# EAGLE library part SIMM72 (library F030NG)
SIMM slot 72pin
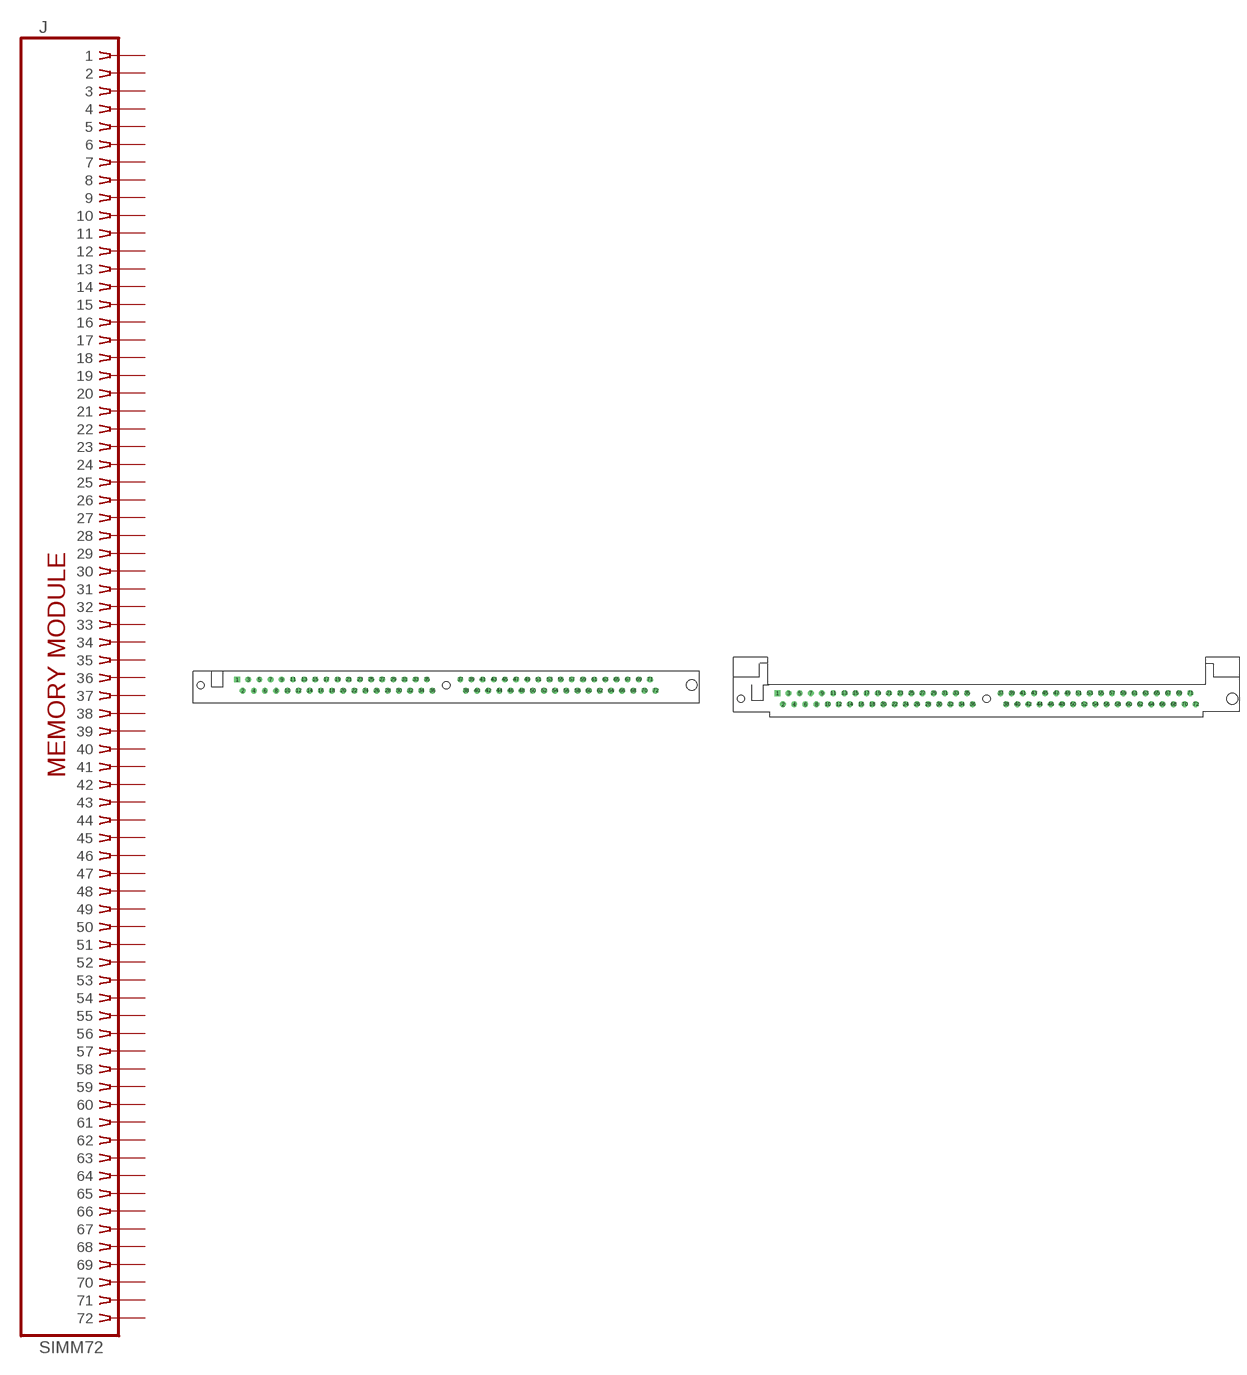
[diagram p3: symbol with the pads of TE_5822021-4; footprints TE_5822021-4, TE_5822134-3]

Designator prefix J

## SIMM72-VERT  [TE_5822021-4]
1  1  pas
2  2  pas
3  3  pas
4  4  pas
5  5  pas
6  6  pas
7  7  pas
8  8  pas
9  9  pas
10  10  pas
11  11  pas
12  12  pas
13  13  pas
14  14  pas
15  15  pas
16  16  pas
17  17  pas
18  18  pas
19  19  pas
20  20  pas
21  21  pas
22  22  pas
23  23  pas
24  24  pas
25  25  pas
26  26  pas
27  27  pas
28  28  pas
29  29  pas
30  30  pas
31  31  pas
32  32  pas
33  33  pas
34  34  pas
35  35  pas
36  36  pas
37  37  pas
38  38  pas
39  39  pas
40  40  pas
41  41  pas
42  42  pas
43  43  pas
44  44  pas
45  45  pas
46  46  pas
47  47  pas
48  48  pas
49  49  pas
50  50  pas
51  51  pas
52  52  pas
53  53  pas
54  54  pas
55  55  pas
56  56  pas
57  57  pas
58  58  pas
59  59  pas
60  60  pas
61  61  pas
62  62  pas
63  63  pas
64  64  pas
65  65  pas
66  66  pas
67  67  pas
68  68  pas
69  69  pas
70  70  pas
71  71  pas
72  72  pas

## SIMM72-22DEG  [TE_5822134-3]
Pads as for TE_5822021-4

## Footprint TE_5822021-4 (pad centres in mm)
SIMM 72 pin vertical TE 5822134-3
drill 0.8 square: 1 -47.625,1.27
drill 0.8: 2 -46.355,-1.27; 3 -45.085,1.27; 4 -43.815,-1.27; 5 -42.545,1.27; 6 -41.275,-1.27; 7 -40.005,1.27; 8 -38.735,-1.27; 9 -37.465,1.27; 10 -36.195,-1.27; 11 -34.925,1.27; 12 -33.655,-1.27; 13 -32.385,1.27; 14 -31.115,-1.27; 15 -29.845,1.27; 16 -28.575,-1.27; 17 -27.305,1.27; 18 -26.035,-1.27; 19 -24.765,1.27; 20 -23.495,-1.27; 21 -22.225,1.27; 22 -20.955,-1.27; 23 -19.685,1.27; 24 -18.415,-1.27; 25 -17.145,1.27; 26 -15.875,-1.27; 27 -14.605,1.27; 28 -13.335,-1.27; 29 -12.065,1.27; 30 -10.795,-1.27; 31 -9.525,1.27; 32 -8.255,-1.27; 33 -6.985,1.27; 34 -5.715,-1.27; 35 -4.445,1.27; 36 -3.175,-1.27; 37 3.175,1.27; 38 4.445,-1.27; 39 5.715,1.27; 40 6.985,-1.27; 41 8.255,1.27; 42 9.525,-1.27; 43 10.795,1.27; 44 12.065,-1.27; 45 13.335,1.27; 46 14.605,-1.27; 47 15.875,1.27; 48 17.145,-1.27; 49 18.415,1.27; 50 19.685,-1.27; 51 20.955,1.27; 52 22.225,-1.27; 53 23.495,1.27; 54 24.765,-1.27; 55 26.035,1.27; 56 27.305,-1.27; 57 28.575,1.27; 58 29.845,-1.27; 59 31.115,1.27; 60 32.385,-1.27; 61 33.655,1.27; 62 34.925,-1.27; 63 36.195,1.27; 64 37.465,-1.27; 65 38.735,1.27; 66 40.005,-1.27; 67 41.275,1.27; 68 42.545,-1.27; 69 43.815,1.27; 70 45.085,-1.27; 71 46.355,1.27; 72 47.625,-1.27
hole 1.6 at 0,0
hole 2.4 at 55.9,0
hole 1.6 at -55.9,0

## Footprint TE_5822134-3 (pad centres in mm)
SIMM 72 pin TE 5822134-3 22deg.
drill 0.8 square: 1 -47.625,1.27
drill 0.8: 2 -46.355,-1.27; 3 -45.085,1.27; 4 -43.815,-1.27; 5 -42.545,1.27; 6 -41.275,-1.27; 7 -40.005,1.27; 8 -38.735,-1.27; 9 -37.465,1.27; 10 -36.195,-1.27; 11 -34.925,1.27; 12 -33.655,-1.27; 13 -32.385,1.27; 14 -31.115,-1.27; 15 -29.845,1.27; 16 -28.575,-1.27; 17 -27.305,1.27; 18 -26.035,-1.27; 19 -24.765,1.27; 20 -23.495,-1.27; 21 -22.225,1.27; 22 -20.955,-1.27; 23 -19.685,1.27; 24 -18.415,-1.27; 25 -17.145,1.27; 26 -15.875,-1.27; 27 -14.605,1.27; 28 -13.335,-1.27; 29 -12.065,1.27; 30 -10.795,-1.27; 31 -9.525,1.27; 32 -8.255,-1.27; 33 -6.985,1.27; 34 -5.715,-1.27; 35 -4.445,1.27; 36 -3.175,-1.27; 37 3.175,1.27; 38 4.445,-1.27; 39 5.715,1.27; 40 6.985,-1.27; 41 8.255,1.27; 42 9.525,-1.27; 43 10.795,1.27; 44 12.065,-1.27; 45 13.335,1.27; 46 14.605,-1.27; 47 15.875,1.27; 48 17.145,-1.27; 49 18.415,1.27; 50 19.685,-1.27; 51 20.955,1.27; 52 22.225,-1.27; 53 23.495,1.27; 54 24.765,-1.27; 55 26.035,1.27; 56 27.305,-1.27; 57 28.575,1.27; 58 29.845,-1.27; 59 31.115,1.27; 60 32.385,-1.27; 61 33.655,1.27; 62 34.925,-1.27; 63 36.195,1.27; 64 37.465,-1.27; 65 38.735,1.27; 66 40.005,-1.27; 67 41.275,1.27; 68 42.545,-1.27; 69 43.815,1.27; 70 45.085,-1.27; 71 46.355,1.27; 72 47.625,-1.27
hole 1.63 at 0,0
hole 2.45 at 55.9,0
hole 1.65 at -55.9,0